# EAGLE library part HT16K33_MODUL (library HT16k33)
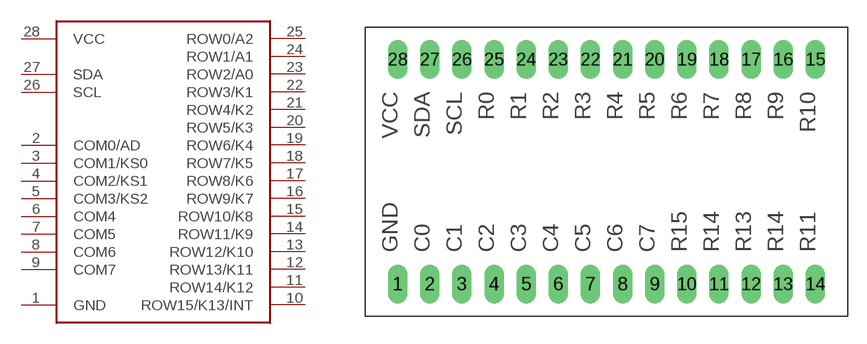
[diagram p1: symbol with the pads of MODUL; footprint MODUL]

Designator prefix -

## HT16K33_MODUL  [MODUL]
1  GND  pwr
2  COM0/AD  out
3  COM1/KS0  out
4  COM2/KS1  out
5  COM3/KS2  out
6  COM4  out
7  COM5  out
8  COM6  out
9  COM7  out
10  ROW15/K13/INT
11  ROW14/K12
12  ROW13/K11
13  ROW12/K10
14  ROW11/K9
15  ROW10/K8
16  ROW9/K7
17  ROW8/K6
18  ROW7/K5
19  ROW6/K4
20  ROW5/K3
21  ROW4/K2
22  ROW3/K1
23  ROW2/A0
24  ROW1/A1
25  ROW0/A2
26  SCL  in
27  SDA
28  VCC  pwr

## Footprint MODUL (pad centres in mm)
drill 1.016 long: 1 -20.32,-8.89; 2 -17.78,-8.89; 3 -15.24,-8.89; 4 -12.7,-8.89; 5 -10.16,-8.89; 6 -7.62,-8.89; 7 -5.08,-8.89; 8 -2.54,-8.89; 9 0,-8.89; 10 2.54,-8.89; 11 5.08,-8.89; 12 7.62,-8.89; 13 10.16,-8.89; 14 12.7,-8.89; 15 12.7,8.89; 16 10.16,8.89; 17 7.62,8.89; 18 5.08,8.89; 19 2.54,8.89; 20 0,8.89; 21 -2.54,8.89; 22 -5.08,8.89; 23 -7.62,8.89; 24 -10.16,8.89; 25 -12.7,8.89; 26 -15.24,8.89; 27 -17.78,8.89; 28 -20.32,8.89